# Altium schematic symbol library Axsem-PIR_V.1.SCHLIB: 28 symbols
Pins are listed as number, name and electrical type; pins without a type are passive.

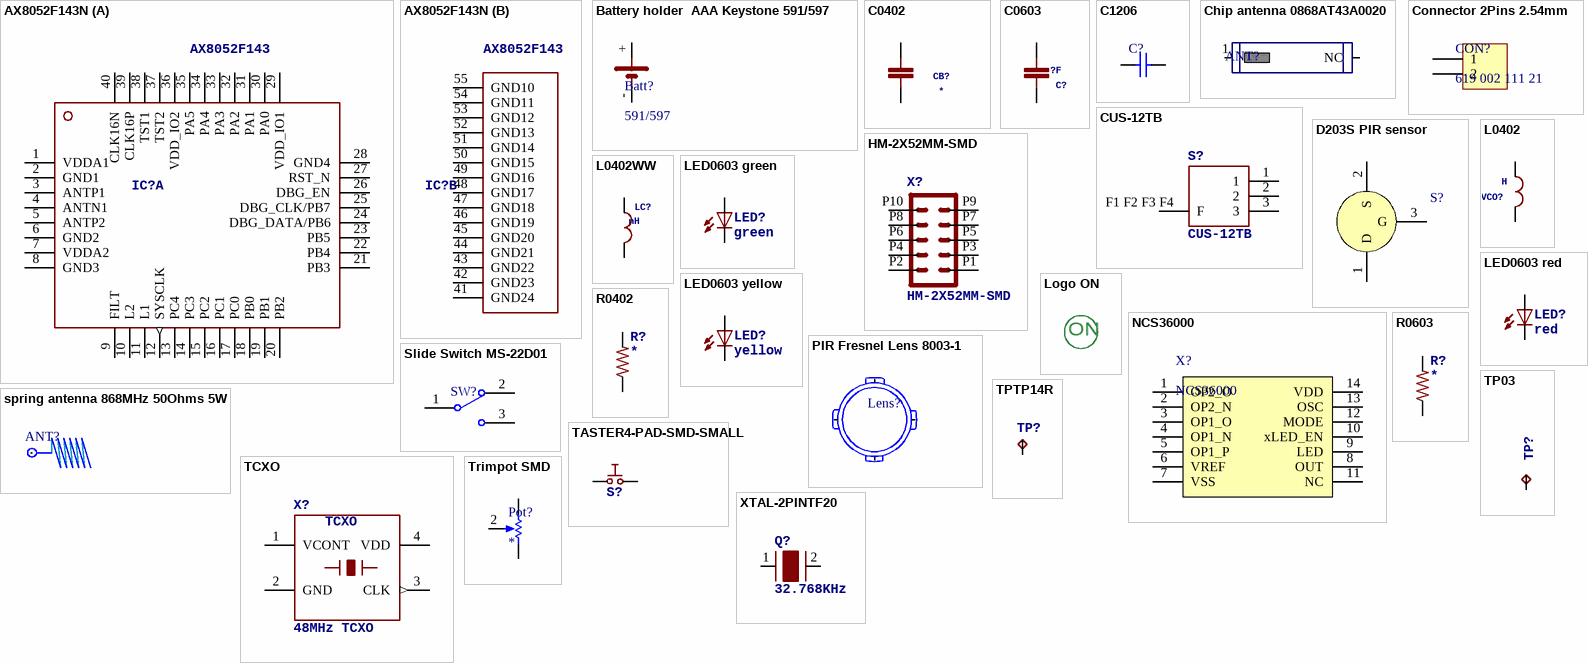
[diagram p0: symbols AX8052F143N to XTAL-2PINTF20]

## AX8052F143N
designator IC?  (value not drawn)
RF-MICRO; AX8052F143: AX8052F143
footprint QFN40
part A pins: 1 VDDA1 (power), 2 GND1 (power), 3 ANTP1, 4 ANTN1, 5 ANTP2, 6 GND2 (power), 7 VDDA2 (power), 8 GND3 (power), 9 FILT, 10 L2, 11 L1, 12 SYSCLK (out), 13 PC4, 14 PC3, 15 PC2, 16 PC1, 17 PC0, 18 PB0, 19 PB1, 20 PB2, 21 PB3, 22 PB4, 23 PB5, 24 DBG_DATA/PB6, 25 DBG_CLK/PB7, 26 DBG_EN, 27 RST_N, 28 GND4 (power), 29 VDD_IO1 (power), 30 PA0, 31 PA1, 32 PA2, 33 PA3, 34 PA4, 35 PA5, 36 VDD_IO2, 37 TST2, 38 TST1, 39 CLK16P, 40 CLK16N
part B pins: 41 GND24 (power), 42 GND23 (power), 43 GND22 (power), 44 GND21 (power), 45 GND20 (power), 46 GND19 (power), 47 GND18 (power), 48 GND17 (power), 49 GND16 (power), 50 GND15 (power), 51 GND14 (power), 52 GND13 (power), 53 GND12 (power), 54 GND11 (power), 55 GND10 (power)

## Battery holder  AAA Keystone 591/597
designator Batt?, comment 591/597
Batt Holder AAA Keystone 591/597; Manufaturer: Keystone; Model: 591/597; Type: Batt Holder AAA TH; Batt Size: AAA
footprint Battery Clip AAA (Battery Clip AAA Keystone 597/591)
pins: +, -

## C0402
designator CB?
C0402; Value: *
footprint C0402
pins: 1, 2

## C0603
designator C?, comment ?F
C0603; Value: ?F
footprint C0603
pins: 1, 2

## C1206
designator C?, comment *F  (value not drawn)
C1206; Value: *F
footprint C1206
pins: 1, 2

## Chip antenna 0868AT43A0020
designator ANT?, comment 0868AT43A0020  (value not drawn)
Chip Antenna 0868AT43A0020 Johanson Tech; Manufaturer: Johanson Technology; Frequency Range: 858 - 878 MHz; Reference: 0868AT43A0020; Type: Chip Antenna 868 MHz
footprint Chip antenna (Footprint not found)
pins: 1 Feeding Point, 2 NC

## Connector 2Pins 2.54mm
designator CON?, comment 619 002 111 21
Header Male 2.54mm 2 pins; Manufaturer: Würth Elektronik; Model: 619 002 111 21; Type: Header Male, 2.54mm, 2 pins
footprint connector 61900211121 (2 pins, straight, male header, 2.54mm)
pins: 1, 2

## CUS-12TB
designator S?
563-1102-1-ND
footprint CUS-12TB
pins: 1, 2, 3, F1 F2 F3 F4 F

## D203S PIR sensor
designator S?, comment D203S  (value not drawn)
PIR sensor; Manufacturer: PIR sensor CO.,LTD; Manufacturer Part Number: D203S; Pin Count: 3; Part: D203S
footprint ONSC-TO-5-3 (TO-5, 3-Leads, Diameter 9.145 mm)
pins: 1 D, 2 S, 3 G

## HM-2X52MM-SMD
designator X?
footprint HM-2MM-2X5-SMD
pins: P1 1, P2 2, P3 3, P4 4, P5 5, P6 6, P7 7, P8 8, P9 9, P10 10

## L0402
designator LVCO?, comment H
L0402; value: H
footprint L0402
pins: 1, 2

## L0402WW
designator LC?, comment nH
Value: nH
footprint L0402WW
pins: 1, 2

## LED0603 green
designator LED?, comment green
LED0603-G; Color red: red; Color yellow: yellow; Color green: green
footprint LED0603 -G (LED0603 green)
pins: A, C

## LED0603 red
designator LED?, comment red
LED0603 red; Color green: green; Color yellow: yellow; Color red: red
footprint LED0603-R (LED0603 red)
pins: A, C

## LED0603 yellow
designator LED?, comment yellow
LED0603-Y; Color red: red; Color green: green; Color yellow: yellow
footprint LED0603 - Y (LED0603 yellow)
pins: A, C

## Logo ON
designator Logo ON  (value not drawn)
footprint ON Logo
text: ON

## NCS36000
designator X?
PIR sensor; Manufacturer: ON semiconductor; Part Description: PIR controller; Part Number: NCS36000; Component Link: http://www.onsemi.com/PowerSolutions/product.do?id=NCS36000
footprint SOIC127P600X175-14AN
pins: 1 OP2_O, 2 OP2_N, 3 OP1_O, 4 OP1_N, 5 OP1_P, 6 VREF, 7 VSS, 8 OUT, 9 LED, 10 xLED_EN, 11 NC, 12 MODE, 13 OSC, 14 VDD

## PIR Fresnel Lens 8003-1
designator Lens?, comment fresnel lens 8003-1  (value not drawn)
Reference: PIR Fresnel lens 8003-1; type: Fresnel Lens R11.4; Model: 8003-1
footprint Lens (Fresnel Lens)
pins: Tab1, Tab2, Tab3, Tab4

## R0402
designator R?
R0402; Value: *
footprint R0402
pins: 1, 2

## R0603
designator R?
R0603; Value: *
footprint R0603
pins: 1, 2

## Slide Switch MS-22D01
designator SW?, comment MS-22D01  (value not drawn)
Slide Switch MS-22D01 2P2T; Rating: DC 6V 300mA; Part: MS-22D01; Type: slide switch spdt; Circuit: 2P2T
footprint SW MS-22D01 (MS-22D01 2P2T DC 6V 300mA)
pins: 1, 2, 3

## spring antenna 868MHz 50Ohms 5W
designator ANT?, comment SW868-TH13  (value not drawn)
SW868-TH13 Antenna; Frequency: 868MHz; Type: Spring Antenna; Reference: SW868-TH13
footprint Spring Antenna (SW868-TH13 Antenna)
pins: 0

## TASTER4-PAD-SMD-SMALL
designator S?  (value not drawn)
AXSEM tasters
footprint TASTER_SMALL_SMD_4PAD
pins: P1 1, P3 2

## TCXO
designator X?, comment 48MHz TCXO
TCXO: TCXO
footprint X2016
pins: 1 VCONT, 2 GND (power), 3 CLK (out), 4 VDD (power)

## TP03
designator TP?  (value not drawn)
Test pad
footprint PIN-03
pins: P$1 TP

## TPTP14R
designator TP?  (value not drawn)
Test pad
footprint TP14R
pins: TP

## Trimpot SMD
designator Pot?
Bourns 3364W SMD 4mm square Trimpot; Manufaturer: Bourns; Model: 3364W; Type: Trimming Potentiometer SMD; Value: *
footprint Poti-4mm SMD (Bourns 3364W SMD 4mm)
pins: 1, 2, 3

## XTAL-2PINTF20
designator Q?, comment 32.768KHz
footprint TF20
pins: 1 P1, 2 P2